# Altium footprint library SOIC127P790X190-14L.PcbLib: 1 footprints
Each footprint in its own frame and in the unit in brackets; x right, y up, seen from the top. Pads: shape width x height; smd on the part's side, far side on the other; paste and mask are expansions set on the pad; w line width, h text height; cw(c..) or ccw(c..) is an arc to the next point about the centre after c.
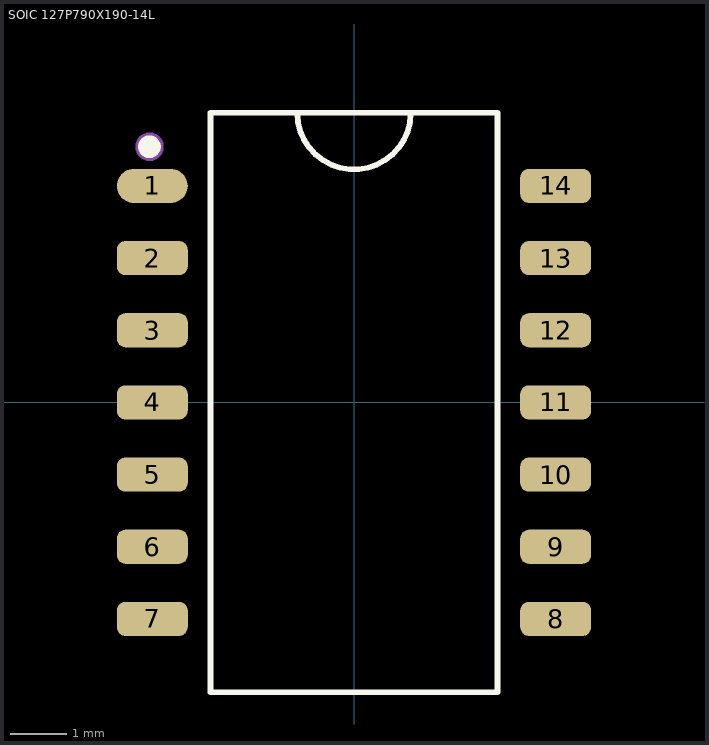
[diagram p0: the footprint, top view; thin cyan lines are the x and y axes]

## SOIC 127P790X190-14L [mm] "SOIC, 14-Leads, Body 10.20x5.30mm, Pitch 1.27mm, IPC High Density"
height 1.9
pads (14):
  oval 1.25x0.6 smd: 1(-3.55,3.81)
  rrect50% 1.25x0.6 smd: 2(-3.55,2.54) 3(-3.55,1.27) 4(-3.55,0) 5(-3.55,-1.27) 6(-3.55,-2.54) 7(-3.55,-3.81) 8(3.55,-3.81) 9(3.55,-2.54) 10(3.55,-1.27) 11(3.55,0) 12(3.55,1.27) 13(3.55,2.54) 14(3.55,3.81)
Top Overlay:
  circle w0.2: c-3.6,4.5 r0.1
  lines w0.1: -1,5.1 ccw(c0,5.1) 1,5.1 ; -2.525,-5.1 -2.525,5.1 2.525,5.1 2.525,-5.1 -2.525,-5.1
Top Assembly:
  circle w0.25: c-3.6,4.5 r0.125
3D body "SOIC127P790X190-14L.step": height 1.9, standoff 0, extent -3.95,-5.1 3.95,5.1